# Altium footprint library mcore-h616.PcbLib: 1 footprints
Each footprint in its own frame and in the unit in brackets; x right, y up, seen from the top. Pads: shape width x height; smd on the part's side, far side on the other; paste and mask are expansions set on the pad; w line width, h text height; cw(c..) or ccw(c..) is an arc to the next point about the centre after c.
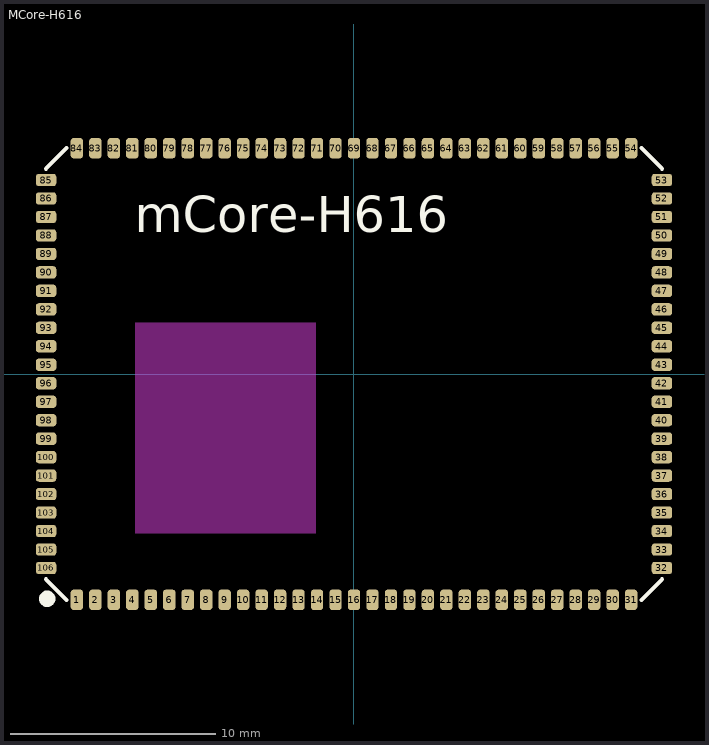
[diagram p0: the footprint, top view; thin cyan lines are the x and y axes]

## MCore-H616 [mm]
height 2.9
pads (106):
  rrect50% 0.6x1 smd mask+0.051: 1(-13.5,-11) 2(-12.6,-11) 3(-11.7,-11) 4(-10.8,-11) 5(-9.9,-11) 6(-9,-11) 7(-8.1,-11) 8(-7.2,-11) 9(-6.3,-11) 10(-5.4,-11) 11(-4.5,-11) 12(-3.6,-11) 13(-2.7,-11) 14(-1.8,-11) 15(-0.9,-11) 16(0,-11) 17(0.9,-11) 18(1.8,-11) 19(2.7,-11) 20(3.6,-11) 21(4.5,-11) 22(5.4,-11) 23(6.3,-11) 24(7.2,-11) 25(8.1,-11) 26(9,-11) 27(9.9,-11) 28(10.8,-11) 29(11.7,-11) 30(12.6,-11) 31(13.5,-11) 54(13.5,11) 55(12.6,11) 56(11.7,11) 57(10.8,11) 58(9.9,11) 59(9,11) 60(8.1,11) 61(7.2,11) 62(6.3,11) 63(5.4,11) 64(4.5,11) 65(3.6,11) 66(2.7,11) 67(1.8,11) 68(0.9,11) 69(0,11) 70(-0.9,11) 71(-1.8,11) 72(-2.7,11) 73(-3.6,11) 74(-4.5,11) 75(-5.4,11) 76(-6.3,11) 77(-7.2,11) 78(-8.1,11) 79(-9,11) 80(-9.9,11) 81(-10.8,11) 82(-11.7,11) 83(-12.6,11) 84(-13.5,11)
  rrect50% 1x0.6 smd mask+0.051: 32(15,-9.45) 33(15,-8.55) 34(15,-7.65) 35(15,-6.75) 36(15,-5.85) 37(15,-4.95) 38(15,-4.05) 39(15,-3.15) 40(15,-2.25) 41(15,-1.35) 42(15,-0.45) 43(15,0.45) 44(15,1.35) 45(15,2.25) 46(15,3.15) 47(15,4.05) 48(15,4.95) 49(15,5.85) 50(15,6.75) 51(15,7.65) 52(15,8.55) 53(15,9.45) 85(-15,9.45) 86(-15,8.55) 87(-15,7.65) 88(-15,6.75) 89(-15,5.85) 90(-15,4.95) 91(-15,4.05) 92(-15,3.15) 93(-15,2.25) 94(-15,1.35) 95(-15,0.45) 96(-15,-0.45) 97(-15,-1.35) 98(-15,-2.25) 99(-15,-3.15) 100(-15,-4.05) 101(-15,-4.95) 102(-15,-5.85) 103(-15,-6.75) 104(-15,-7.65) 105(-15,-8.55) 106(-15,-9.45)
Top Overlay:
  circle w0.4: c-14.95,-10.95 r0.2
  lines w0.152: -15,-10 -15,-10
  lines w0.2: -15,-10 -14,-11 ; -15,10 -14,11 ; 14,-11 15,-10 ; 14,11 15,10
  text "mCore-H616" at -10.674,6.322 h3
Keep-Out Layer:
  board cut-out: -10.668,-7.747 -10.668,2.489 -1.854,2.489 -1.854,-7.747
3D body: height 2.5, standoff 0, extent -15,-11 15,11